# EAGLE library part STEPS_REV_B$_LAYOUT_SMT (library stepOSP)
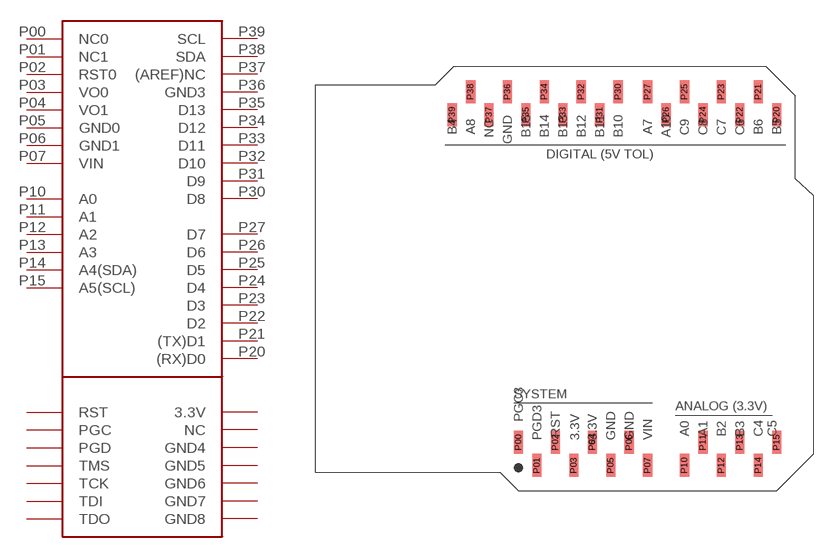
[diagram p37: symbol with the pads of STEPS_REV_B4_LAYOUT_SMT; footprint STEPS_REV_B4_LAYOUT_SMT]

Designator prefix -

## STEPS_REV_B$_LAYOUT_SMT  [STEPS_REV_B4_LAYOUT_SMT]
P00  NC0
P01  NC1
P02  RST0
P03  VO0
P04  VO1
P05  GND0
P06  GND1
P07  VIN
P10  A0
P11  A1
P12  A2
P13  A3
P14  A4(SDA)
P15  A5(SCL)
P20  (RX)D0
P21  (TX)D1
P22  D2
P23  D3
P24  D4
P25  D5
P26  D6
P27  D7
P30  D8
P31  D9
P32  D10
P33  D11
P34  D12
P35  D13
P36  GND3
P37  (AREF)NC
P38  SDA
P39  SCL

## Footprint STEPS_REV_B4_LAYOUT_SMT (pad centres in mm)
smd 1.27 x 3.175: 6 38.1,4.128; P00 27.94,4.128; P01 30.48,0.953; P02 33.02,4.128; P03 35.56,0.953; P04 38.1,4.128; P05 40.64,0.953; P06 43.18,4.128; P07 45.72,0.953; P10 50.8,0.953; P11 53.34,4.128; P12 55.88,0.953; P13 58.42,4.128; P14 60.96,0.953; P15 63.5,4.128; P20 63.5,49.212; P21 60.96,52.388; P22 58.42,49.212; P23 55.88,52.388; P24 53.34,49.212; P25 50.8,52.388; P26 48.26,49.212; P27 45.72,52.388; P30 41.656,52.388; P31 39.116,49.212; P32 36.576,52.388; P33 34.036,49.212; P34 31.496,52.388; P35 28.956,49.212; P36 26.416,52.388; P37 23.876,49.212; P38 21.336,52.388; P39 18.796,49.212